# EAGLE library part VSK-S3 (library BaseApp)
5V :- 102-1802-ND
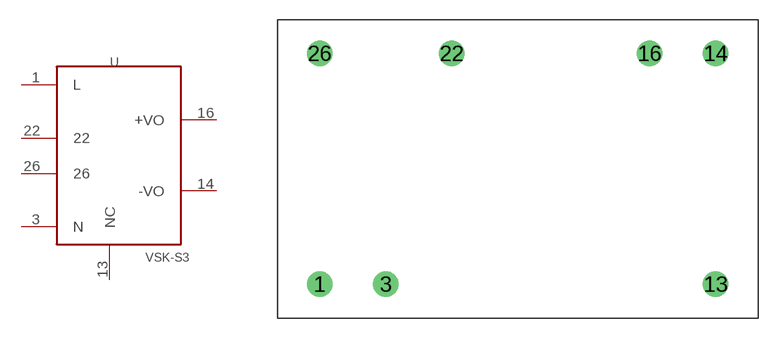
[diagram p100: symbol with the pads of VSK-S3-5U; footprint VSK-S3-5U]

Designator prefix -

## VSK-S3-5V (DIGIKEY: 102-1802-ND)  [VSK-S3-5U]
1  L
3  N
13  NC
14  -VO
16  +VO
22  22
26  26

## Footprint VSK-S3-5U (pad centres in mm)
drill 1.3: 1 -15.24,-8.89; 3 -10.16,-8.89; 13 15.24,-8.89; 14 15.24,8.89; 16 10.16,8.89; 22 -5.08,8.89; 26 -15.24,8.89